# EAGLE library part MCP3204-CI/P (library MCP3204-CI_P)
A/D Converters
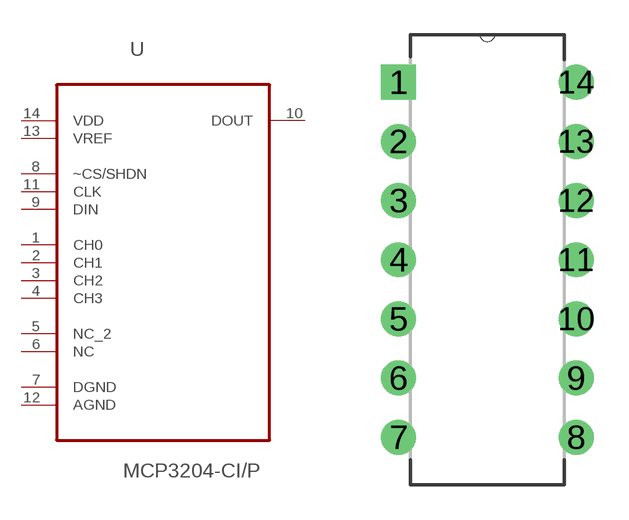
[diagram p0: symbol with the pads of DIP254P762X432-14; footprint DIP254P762X432-14]

Designator prefix -

## MCP3204-CI/P (Availability: Unavailable; Description: 12 Bit Analog to Digital Converter 2, 4 Input 1 SAR 14-PDIP; MF: Microchip; MP: MCP3204-CI/P; Package: DIP-14 Microchip; Price: None)  [DIP254P762X432-14]
1  CH0  in
2  CH1  in
3  CH2  in
4  CH3  in
5  NC_2  nc
6  NC  nc
7  DGND  pas
8  ~CS/SHDN  in
9  DIN  in
10  DOUT  out
11  CLK  in
12  AGND  pas
13  VREF  pwr
14  VDD  pwr

## Footprint DIP254P762X432-14 (pad centres in mm)
drill 0.991 square: 1 -7.62,15.24
drill 0.991: 2 -7.62,12.7; 3 -7.62,10.16; 4 -7.62,7.62; 5 -7.62,5.08; 6 -7.62,2.54; 7 -7.62,0; 8 0,0; 9 0,2.54; 10 0,5.08; 11 0,7.62; 12 0,10.16; 13 0,12.7; 14 0,15.24